# EAGLE library part JCD0505S12 (library JCD0405S12)
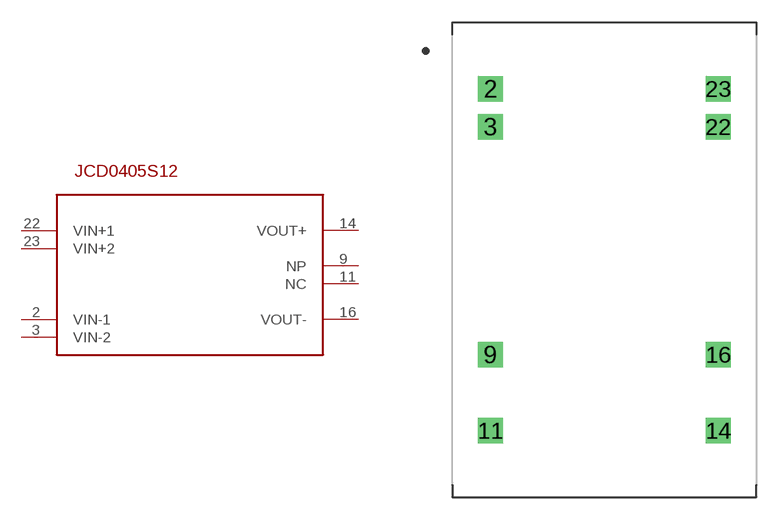
[diagram p0: symbol with the pads of DIP1524W53P254L3175H1040Q24A; footprint DIP1524W53P254L3175H1040Q24A]

Designator prefix -

## JCD0505S12JCD0505S12  [DIP1524W53P254L3175H1040Q24A]
2  VIN-1
3  VIN-2
9  NP
11  NC
14  VOUT+
16  VOUT-
22  VIN+1
23  VIN+2

## Footprint DIP1524W53P254L3175H1040Q24A (pad centres in mm)
24-DIP, 2.54 mm (0.10 in) pitch, 15.24 mm (0.60 in) span, 31.75 X 20.32 X 10.40 mm body 24-pin DIP package with 2.54 mm (0.10 in) pitch, 15.24 mm (0.60 in) span with body size 31.75 X 20.32 X 10.40 mm
drill 0.979 pad 1.679 square: 2 -7.62,11.43; 3 -7.62,8.89; 9 -7.62,-6.35; 11 -7.62,-11.43; 14 7.62,-11.43; 16 7.62,-6.35; 22 7.62,8.89; 23 7.62,11.43